# EAGLE library part TS5A3159 (library parts)
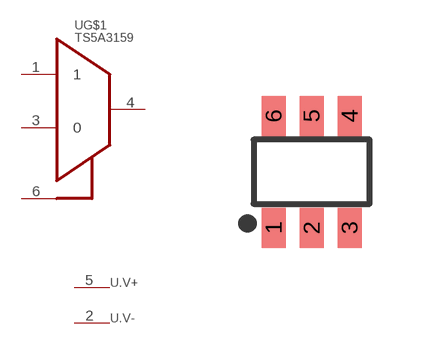
[diagram p21: symbol with the pads of SOT-23-6; footprint SOT-23-6]

Designator prefix U; gates G$1=MUX2:1 .V+=V+ .V-=V-

## TS5A3159DBV  [SOT-23-6]
1  G$1:1  pas
2  .V-:V-  pwr
3  G$1:0  pas
4  G$1:C  pas
5  .V+:V+  pwr
6  G$1:SEL  in

## Footprint SOT-23-6 (pad centres in mm)
smd 0.6 x 1: 1 -0.95,-1.4; 2 0,-1.4; 3 0.95,-1.4; 4 0.95,1.4; 5 0,1.4; 6 -0.95,1.4